# EAGLE library part LCD-16X2 (library digital-toy)
LCD 1602 1602 STD standard lcd1602 1602 YHDS buy from taobao: DV162B4 S2FBLY-H-DS by hyl digital-toy
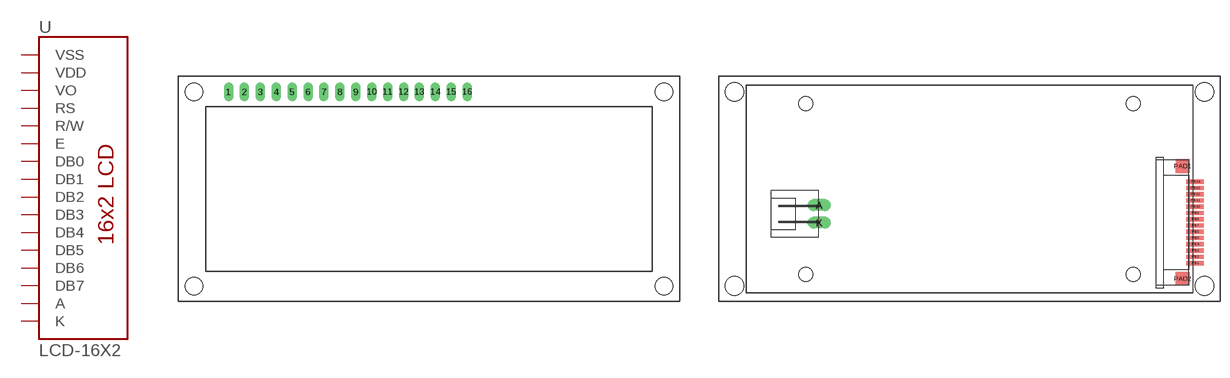
[diagram p8: symbol with the pads of LCD-16X2; footprints LCD-16X2, LCD-1602-YHDS]

Designator prefix -

## LCD-16X2-STD  [LCD-16X2]
1  VSS  pwr
2  VDD  pwr
3  VO
4  RS  in
5  R/W  in
6  E  in
7  DB0
8  DB1
9  DB2
10  DB3
11  DB4
12  DB5
13  DB6
14  DB7
15  A  pwr
16  K  pwr

## LCD-16X2-YHDS  [LCD-1602-YHDS]
A  A  pwr
K  K  pwr
P$1  VSS  pwr
P$2  VDD  pwr
P$3  VO
P$4  RS  in
P$5  R/W  in
P$6  E  in
P$7  DB0
P$8  DB1
P$9  DB2
P$10  DB3
P$11  DB4
P$12  DB5
P$13  DB6
P$14  DB7

## Footprint LCD-16X2 (pad centres in mm)
drill 1.016 long: 1 -32,15.5; 2 -29.46,15.5; 3 -26.92,15.5; 4 -24.38,15.5; 5 -21.84,15.5; 6 -19.3,15.5; 7 -16.76,15.5; 8 -14.22,15.5; 9 -11.68,15.5; 10 -9.14,15.5; 11 -6.6,15.5; 12 -4.06,15.5; 13 -1.52,15.5; 14 1.02,15.5; 15 3.56,15.5; 16 6.1,15.5
hole 2.8 at -37.5,15.5
hole 2.8 at -37.5,-15.5
hole 2.8 at 37.5,15.5
hole 2.8 at 37.5,-15.5

## Footprint LCD-1602-YHDS (pad centres in mm)
drill 1.016 pad 1.88 long: A -24,-2.603; K -24,-5.397
smd 2.8 x 0.68: P$1 36.02,-11.85; P$2 36.02,-10.85; P$3 36.02,-9.85; P$4 36.02,-8.85; P$5 36.02,-7.85; P$6 36.02,-6.85; P$7 36.02,-5.85; P$8 36.02,-4.85; P$9 36.02,-3.85; P$10 36.02,-2.85; P$11 36.02,-1.85; P$12 36.02,-0.85; P$13 36.02,0.15; P$14 36.02,1.15
smd 2.2 x 2.2: PAD1 34.02,3.65; PAD2 34.02,-14.35
hole 3 at -37.5,15.5
hole 3 at -37.5,-15.5
hole 3 at 37.5,15.5
hole 3 at 37.5,-15.5
hole 2.24 at -26.13,13.67
hole 2.24 at -26.13,-13.67
hole 2.24 at 26.13,-13.67
hole 2.24 at 26.13,13.67